# Altium schematic symbol library PMP12082.SCHLIB: 56 symbols
Pins are listed as number, name and electrical type; pins without a type are passive.

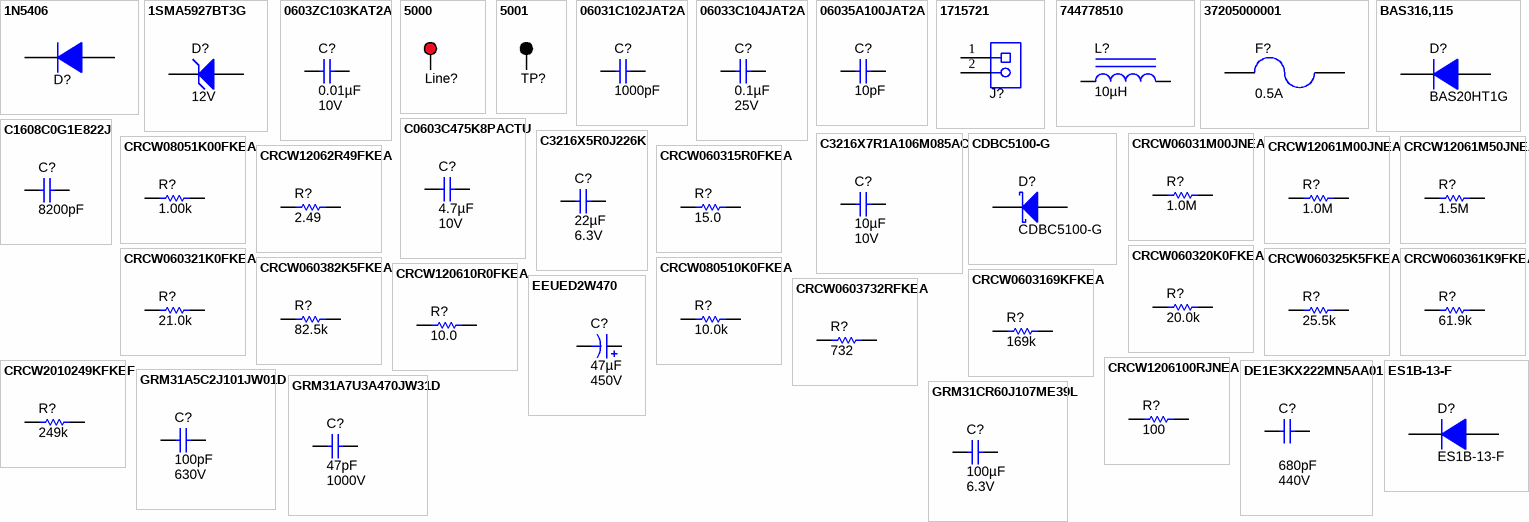
[diagram p0: symbols 1N5406 to GRM31CR60J107ME39L]

## 1N5406
designator D?, comment 1N5408  (value not drawn)
Diode, Switching-Bridge, 1000 V, 3 A, TH; Manufacturer: Vishay-Semiconductor; U/M: EA; Vf_V: 1.2; Value: 1000V; Value1: 3A; Value2: 1.2V; Io_A: 3; Vr_V: 1000; TJmax_C: 150; AEC Category: Q101; SymbolVersion: 2008-12-08; PartNumber: 1N5408; PackageReference: DO-201AD; CompType: Diode; MountType: TH; Type: Switching-Bridge; RoHS: Y; Published: 2008-06-26; Publisher: Texas Instruments; LatestRevisionDate: 2015-12-22; ComponentLink1Description: Datasheet link; ComponentLink1URL: http://www.vishay.com/docs/88516/1n5400.pdf; Supplier 1: Digi-Key; Supplier Part Number 1: 1N5408-E3/54GITR-ND; AEC Qualified: ?
signal-integrity model Diode
footprint DO-201AD
footprint DO-201AD_Vert
pins: 1 K, 2 A

## 1SMA5927BT3G
designator D?  value 12V  (hidden comment: 1SMA5927BT3G)
Diode, Zener, 12 V, 1.5 W, SMA; Manufacturer: ON Semiconductor; SymbolCreator: a0412235; U/M: EA; Power_W: 1.5; Vz_V: 12; Value1: 1.5W; RJA_CperW: 250; SymbolVersion: 2010-08-25; PartNumber: 1SMA5927BT3G; PackageReference: SMA; CompType: Zener; Vr_V: N/A; MountType: SMT; RoHS: Y; ComponentLink1Description: Datasheet link; ComponentLink1URL: http://www.onsemi.com/pub_link/Collateral/1SMA5913BT3-D.PDF; Published: 2008-10-08; Publisher: Texas Instruments; LatestRevisionDate: 2015-03-27; LatestRevisionNote: Updated Supplier Data; Supplier 1: Digi-Key; Supplier Part Number 1: 1SMA5927BT3GOSCT-ND; Supplier 2: Mouser; Supplier Part Number 2: 863-1SMA5927BT3G; Supplier 3: Farnell; Supplier Part Number 3: 1611250
signal-integrity model Diode
footprint SMA
pins: 1 K, 2 A

## 0603ZC103KAT2A
designator C?  ValueDisplayed: 0.01µF  Value2: 10V  (hidden comment: 0603ZC103KAT2A)
CAP, CERM, 0.01 µF, 10 V, +/- 10%, X7R, 0603; Manufacturer: AVX; Polarized: N; CompType: Capacitor; Value: 0.01uF; U/M: EA; Cap_F: 0.00000001; Tolerance_%: 10; Value1: Unknown; TaMin_C: -55; TaMax_C: 125; Cap_Case: 0603; AEC Category: Q200; SymbolVersion: 2008-07-09; PartNumber: 0603ZC103KAT2A; PackageReference: 0603; RoHS: Y; VDC_V: 10; MountType: SMT; Technology: Ceramic; TempCo: X7R; Published: 2008-06-19; Publisher: Texas Instruments; LatestRevisionDate: 2015-12-09; ComponentLink1Description: Datasheet link; ComponentLink1URL: http://www.avx.com/docs/Catalogs/cx7r.pdf; Supplier 1: Digi-Key; Supplier Part Number 1: 478-7938-2-ND; Supplier 2: Mouser; Supplier Part Number 2: 581-0603ZC103K; Supplier 3: Newark; Supplier Part Number 3: 33C9225; AEC Qualified: N; AEC Grade: N/A
signal-integrity model Cap
simulation model Cap
footprint 0603
footprint 0603M
footprint 0603L
footprint 0603_HV
footprint 0603S
pins: 1, 2

## 5000
designator Line?  (value not drawn)
Test Point, Miniature, Red, TH; Manufacturer: Keystone; CompType: Test Point Loop; U/M: EA; SymbolVersion: 2008-04-04; PartNumber: 5000; PackageReference: Red Miniature Testpoint; RoHS: Y; MountType: TH; ComponentLink1Description: Datasheet Link; ComponentLink1URL: http://www.keyelco.com/userAssets/file/M60-2p60.pdf; Value: Red; Publisher: Texas Instruments; LatestRevisionDate: 2015-08-25; Supplier 1: Digi-Key; Supplier Part Number 1: 36-5000-ND
footprint Keystone5000
pins: 1

## 5001
designator TP?  (value not drawn)
Test Point, Miniature, Black, TH; Manufacturer: Keystone; CompType: Test Point Loop; U/M: EA; SymbolVersion: 2008-04-04; PartNumber: 5001; PackageReference: Black Miniature Testpoint; RoHS: Y; MountType: TH; ComponentLink1Description: Datasheet Link; ComponentLink1URL: http://www.keyelco.com/userAssets/file/M60-2p60.pdf; Value: Black; Publisher: Texas Instruments; LatestRevisionDate: 2015-08-25; Supplier 1: Digi-Key; Supplier Part Number 1: 36-5001-ND
footprint Keystone5001
pins: 1

## 06031C102JAT2A
designator C?  ValueDisplayed: 1000pF  (hidden comment: 06031C102JAT2A)
CAP, CERM, 1000 pF, 100 V, +/- 5%, X7R, 0603; Manufacturer: AVX; Polarized: N; CompType: Capacitor; Value: 1000pF; U/M: EA; Cap_F: 0.000000001; Tolerance_%: 5; ESR_ohm: 0.276; Value1: 0.276 ohm; VDC_V: 100; Value2: 100V; TaMin_C: -55; TaMax_C: 125; Cap_Case: 0603; SymbolVersion: 2008-07-09; PartNumber: 06031C102JAT2A; PackageReference: 0603; RoHS: Y; MountType: SMT; Technology: Ceramic; TempCo: X7R; Published: 2008-06-19; Publisher: Texas Instruments; LatestRevisionDate: 2014-09-25; ComponentLink1Description: Datasheet link; ComponentLink1URL: http://www.avx.com/docs/masterpubs/smccp.pdf; Supplier 1: Digi-Key; Supplier Part Number 1: 478-3698-1-ND; Supplier 2: Mouser; Supplier Part Number 2: 581-06031C102J; Supplier 3: Farnell; Supplier Part Number 3: 1740627
signal-integrity model Cap
simulation model Cap
footprint 0603
footprint 0603M
footprint 0603L
footprint 0603_HV
footprint 0603S
pins: 1, 2

## 06033C104JAT2A
designator C?  ValueDisplayed: 0.1µF  Value2: 25V  (hidden comment: 06033C104JAT2A)
CAP, CERM, 0.1 µF, 25 V, +/- 5%, X7R, 0603; Manufacturer: AVX; Polarized: N; CompType: Capacitor; Value: 0.1uF; U/M: EA; Cap_F: 0.0000001; Tolerance_%: 5; ESR_ohm: 0.05; Value1: 0.05 ohm; VDC_V: 25; TaMin_C: -55; TaMax_C: 125; Cap_Case: 0603; SymbolVersion: 2008-07-09; PartNumber: 06033C104JAT2A; PackageReference: 0603; RoHS: Y; MountType: SMT; Technology: Ceramic; TempCo: X7R; Published: 2008-06-19; Publisher: Texas Instruments; LatestRevisionDate: 2014-09-25; ComponentLink1Description: Datasheet link; ComponentLink1URL: http://www.avx.com/docs/masterpubs/smccp.pdf; Supplier 1: Digi-Key; Supplier Part Number 1: 478-3713-1-ND; Supplier 2: Mouser; Supplier Part Number 2: 581-06033C104JAT2A; Supplier 3: Farnell; Supplier Part Number 3: 1740614
signal-integrity model Cap
simulation model Cap
footprint 0603
footprint 0603M
footprint 0603L
footprint 0603_HV
footprint 0603S
pins: 1, 2

## 06035A100JAT2A
designator C?  ValueDisplayed: 10pF  (hidden comment: 06035A100JAT2A)
CAP, CERM, 10 pF, 50 V, +/- 5%, C0G/NP0, 0603; Manufacturer: AVX; Polarized: N; CompType: Capacitor; Value: 10pF; U/M: EA; Cap_F: 0.00000000001; Tolerance_%: 5; ESR_ohm: 0.403; Value1: 0.403 ohm; VDC_V: 50; Value2: 50V; TaMin_C: -55; TaMax_C: 125; Cap_Case: 0603; SymbolVersion: 2008-07-09; PartNumber: 06035A100JAT2A; PackageReference: 0603; RoHS: Y; MountType: SMT; Technology: Ceramic; TempCo: C0G/NP0; Published: 2008-06-19; Publisher: Texas Instruments; LatestRevisionDate: 2014-09-04; ComponentLink1Description: Datasheet link; ComponentLink1URL: http://www.avx.com/docs/masterpubs/smccp.pdf; Supplier 1: Digi-Key; Supplier Part Number 1: 478-1163-1-ND; Supplier 2: Mouser; Supplier Part Number 2: 581-06035A100J; Supplier 3: Farnell; Supplier Part Number 3: 499110
signal-integrity model Cap
simulation model Cap
footprint 0603
footprint 0603M
footprint 0603L
footprint 0603_HV
footprint 0603S
pins: 1, 2

## 1715721
designator J?  (value not drawn)
Terminal Block, 5.08 mm, 2x1, TH; Manufacturer: Phoenix Contact; SymbolCreator: a0412235; Pitch_mm: 5.08; Gender: Female; Row_Count: 1; ContactFinish: Tin; Current_A: 17.5; Voltage_V: 400; Cert_CSA: Y; Cert_CULUS: N; SymbolVersion: 2013-09-04; PartNumber: 1715721; PackageReference: 2POS Terminal Block; CompType: Terminal Block; RoHS: Y; MountType: TH; ComponentLink1Description: Datasheet URL; ComponentLink1URL: https://www.phoenixcontact.com/us/products/1715721; Orientation: Vertical; PinCount: 2; Color: Green; Cert_UL: Y; Cert_VDE: Y; Publisher: Texas Instruments; LatestRevisionDate: 2015-12-14; Supplier 1: Digi-Key; Supplier Part Number 1: 277-1263-ND
footprint PhoenixContact_1715721
pins: 1, 2

## 744778510
designator L?  ValueDisplayed: 10µH  (hidden comment: 744778510)
Inductor, Shielded Drum Core, Metal Composite, 10 µH, 1.6 A, 0.1 ohm, SMD; Manufacturer: Wurth Elektronik; Value: 10uH; Ind_H: 10.0E-6; Imax_A: 1.6; Irms: 1.9A @ 40C rise; Isat: 1.6A @ 10% inductance drop; DCR_ohm: 0.1; Value1: 0.1 ohm; Value2: 1.6A; AEC Category: Q200; SymbolVersion: 2008-07-23; CompType: Inductor; PartNumber: 744778510; Technology: Shielded Drum Core; MountType: SMT; Material: Metal Composite; PackageReference: 6.2x3.3x5.9mm; Published: 2008-06-26; Publisher: Texas Instruments; LatestRevisionDate: 2015-12-01; ComponentLink1Description: Datasheet link; ComponentLink1URL: http://katalog.we-online.de/kataloge/eisos/media/pdf/744778510.pdf; RoHS: Y; Supplier 1: Digi-Key; Supplier Part Number 1: 732-4128-1-ND; AEC Qualified: ?
signal-integrity model Inductor
simulation model Inductor
footprint WE-PD_6033
pins: 1, 2

## 37205000001
designator F?  Irating_A: 0.5A  (hidden comment: 37205000001)
Fuse, 0.5 A, 250VAC/VDC, TH; Manufacturer: Littelfuse; VDC_V: 250; SymbolVersion: 2008-07-09; PartNumber: 37205000001; PackageReference: TR5 fuse 8.5mm DIA; MountType: TH; CompType: Fuse; RoHS: Y; VAC_V: 250; Published: 2009-03-05; Publisher: Texas Instruments; LatestRevisionDate: 2015-11-23; ComponentLink1Description: Datasheet URL; ComponentLink1URL: http://www.littelfuse.com/data/en/Data_Sheets/Littelfuse_Fuse_372.pdf; Supplier 1: Digi-Key; Supplier Part Number 1: WK4241CT-ND; Supplier 2: Mouser; Supplier Part Number 2: 576-37205000001; Supplier 3: Farnell; Supplier Part Number 3: 1716328
footprint FUSE_372
pins: 1, 2

## BAS316,115
designator D?, comment BAS20HT1G
DIODE SWITCH 200V 200MA SOD323; U/M: EA; Vf_V: 1.4; Value1: 0.25A; Vr_V: 100; Value2: 100V; TJmax_C: 150; Type: Ultrafast; PartNumber: BAS20HT1G; SymbolVersion: 2008-12-08; MountType: SMT; RoHS: Y; PackageReference: SOD-323; Published: 2008-06-26; Publisher: Texas Instruments; LatestRevisionDate: 2013-03-27; ComponentLink1Description: Datasheet link; Supplier 1: Digi-Key; Supplier Part Number 1: BAS20HT1GOSTR-ND
signal-integrity model Diode
footprint sod-323
pins: 1 K, 2 A

## C0603C475K8PACTU
designator C?  ValueDisplayed: 4.7µF  Value2: 10V  (hidden comment: C0603C475K8PACTU)
CAP, CERM, 4.7 µF, 10 V, +/- 10%, X5R, 0603; Manufacturer: Kemet; Polarized: N; CompType: Capacitor; Value: 4.7uF; U/M: EA; Cap_F: 0.0000047; Tolerance_%: 10; ESR_ohm: 0.006; Value1: 0.006 ohm; IRMS_A: 7.24; TaMin_C: -55; TaMax_C: 85; Cap_Case: 0603; AEC Category: Q200; SymbolVersion: 2008-07-09; PartNumber: C0603C475K8PACTU; PackageReference: 0603; RoHS: Y; VDC_V: 10; MountType: SMT; Technology: Ceramic; TempCo: X5R; Published: 2008-06-19; Publisher: Texas Instruments; LatestRevisionDate: 2015-12-09; ComponentLink1Description: Datasheet link; ComponentLink1URL: http://www.kemet.com/kemet/web/homepage/kechome.nsf/vapubfiles/F3102_Y5V.pdf/$file/F3102_Y5V.pdf; Supplier 1: Digi-Key; Supplier Part Number 1: 399-5503-1-ND; Supplier 2: Mouser; Supplier Part Number 2: 80-C0603C475K8P; Supplier 3: Farnell; Supplier Part Number 3: 1572625; AEC Qualified: ?
signal-integrity model Cap
simulation model Cap
footprint 0603
footprint 0603M
footprint 0603L
footprint 0603_HV
footprint 0603S
pins: 1, 2

## C1608C0G1E822J
designator C?  ValueDisplayed: 8200pF  (hidden comment: C1608C0G1E822J)
CAP, CERM, 8200 pF, 25 V, +/- 5%, C0G/NP0, 0603; Manufacturer: TDK; Polarized: N; CompType: Capacitor; Value: 8200pF; U/M: EA; Cap_F: 0.0000000082; Tolerance_%: 5; Value1: Unknown; VDC_V: 25; Value2: 25V; TaMin_C: -55; TaMax_C: 125; Cap_Case: 0603; AEC Category: Q200; SymbolVersion: 2008-07-09; PartNumber: C1608C0G1E822J; PackageReference: 0603; RoHS: Y; MountType: SMT; Technology: Ceramic; TempCo: C0G/NP0; Published: 2008-06-19; Publisher: Texas Instruments; LatestRevisionDate: 2016-01-20; ComponentLink1Description: Datasheet link; ComponentLink1URL: http://www.tdk.co.jp/tefe02/e412_c.pdf; Supplier 1: Digi-Key; Supplier Part Number 1: 445-2668-1-ND; Supplier 2: Farnell; Supplier Part Number 2: 1844151; AEC Qualified: ?
signal-integrity model Cap
simulation model Cap
footprint 0603
footprint 0603M
footprint 0603L
footprint 0603_HV
footprint 0603S
pins: 1, 2

## C3216X5R0J226K
designator C?  ValueDisplayed: 22µF  Value2: 6.3V  (hidden comment: C3216X5R0J226K)
CAP, CERM, 22 µF, 6.3 V, +/- 20%, X5R, 1206; Manufacturer: TDK; Polarized: N; CompType: Capacitor; Value: 22uF; U/M: EA; Cap_F: 0.000022; Tolerance_%: 20; ESR_ohm: 0.002; Value1: 0.002 ohm; VDC_V: 6.3; IRMS_A: 3.62; TaMin_C: -55; TaMax_C: 85; Cap_Case: 1206; AEC Category: Q200; SymbolVersion: 2008-07-09; PartNumber: C3216X5R0J226K; PackageReference: 1206; RoHS: Y; MountType: SMT; Technology: Ceramic; TempCo: X5R; Published: 2008-06-19; Publisher: Texas Instruments; LatestRevisionDate: 2015-12-09; ComponentLink1Description: Datasheet link; ComponentLink1URL: http://www.tdk.co.jp/tefe02/e412_c.pdf; Supplier 1: Digi-Key; Supplier Part Number 1: 445-4059-1-ND; Supplier 2: Farnell; Supplier Part Number 2: 1844303; AEC Qualified: ?
signal-integrity model Cap
simulation model Cap
footprint 1206
footprint 1206M
footprint 1206L
pins: 1, 2

## C3216X7R1A106M085AC
designator C?  ValueDisplayed: 10µF  Value2: 10V  (hidden comment: C3216X7R1A106M085AC)
CAP, CERM, 10 µF, 10 V, +/- 10%, X7R, 1206; Manufacturer: TDK; Polarized: N; CompType: Capacitor; Value: 10uF; U/M: EA; Cap_F: 0.00001; Tolerance_%: 10; Value1: Unknown; TaMin_C: -55; TaMax_C: 125; Cap_Case: 1206; AEC Category: Q200; SymbolVersion: 2008-07-09; PartNumber: C3216X7R1A106M085AC; PackageReference: 1206; RoHS: Y; VDC_V: 10; MountType: SMT; Technology: Ceramic; TempCo: X7R; Published: 2008-06-19; Publisher: Texas Instruments; LatestRevisionDate: 2015-12-09; ComponentLink1Description: Datasheet link; ComponentLink1URL: http://product.tdk.com/en/catalog/datasheets/mlcc_commercial_general_en.pdf; Supplier 1: Digi-Key; Supplier Part Number 1: 445-14794-1-ND; Supplier 2: Mouser; Supplier Part Number 2: 810-C3216X7R1A106M0C; AEC Qualified: N; AEC Grade: N/A
signal-integrity model Cap
simulation model Cap
footprint 1206
footprint 1206M
footprint 1206L
pins: 1, 2

## CDBC5100-G
designator D?
Diode, Schottky, 100 V, 5 A, SMC; Manufacturer: Comchip Technology; U/M: EA; Vf_V: 0.85; Value: 100V; Value1: 5A; Value2: 0.85V; Io_A: 5; Vr_V: 100; TJmax_C: 125; AEC Category: Q101; CompType: Diode; SymbolVersion: 2008-12-08; PartNumber: CDBC5100-G; PackageReference: SMC; MountType: SMT; Type: Schottky; RoHS: Y; Published: 2008-06-26; Publisher: Texas Instruments; LatestRevisionDate: 2015-12-22; ComponentLink1Description: Datasheet link; ComponentLink1URL: http://www.comchip.com.tw/cms/UserFiles/QW-BB012%20CDBC520-G%7E5100-G%20RevC809622.pdf; Supplier 1: Digi-Key; Supplier Part Number 1: 641-1124-1-ND; Supplier 2: Mouser; Supplier Part Number 2: 750-CDBC5100-G; AEC Qualified: ?
signal-integrity model Diode
footprint SMC
pins: 1 K, 2 A

## CRCW06031M00JNEA
designator R?  ValueDisplayed: 1.0M  (hidden comment: CRCW06031M00JNEA)
RES, 1.0 M, 5%, 0.1 W, 0603; Manufacturer: Vishay-Dale; CompType: Resistor; Value: 1.0Meg; Res_ohm: 1000000; Value_Code: 1M00; Tolerance_%: 5; Power_W: 0.1; Value2: 0.1W; VDC_V: 75; TempCo: 200 ppm/C; EIA_Code: E24; U/M: EA; AEC Category: Q200; SymbolVersion: 2009-05-29; PartNumber: CRCW06031M00JNEA; PackageReference: 0603; RoHS: Y; Value1: 5%; MountType: SMT; Technology: Thick Film; Published: 2008-06-26; Publisher: Texas Instruments; LatestRevisionDate: 2015-12-05; ComponentLink1Description: Datasheet link; ComponentLink1URL: http://www.vishay.com/docs/20035/dcrcwe3.pdf; Supplier 1: Digi-Key; Supplier Part Number 1: 541-1.0MGCT-ND; Supplier 2: Mouser; Supplier Part Number 2: 71-CRCW0603J-1.0M-E3; Supplier 3: Farnell; Supplier Part Number 3: 1514706; AEC Qualified: ?
signal-integrity model Resistor
simulation model Resistor
footprint 0603
footprint 0603M
footprint 0603L
footprint 0603_HV
footprint 0603S
pins: 1, 2

## CRCW08051K00FKEA
designator R?  ValueDisplayed: 1.00k  (hidden comment: CRCW08051K00FKEA)
RES, 1.00 k, 1%, 0.125 W, 0805; Manufacturer: Vishay-Dale; CompType: Resistor; Value: 1.00k; Res_ohm: 1000; Value_Code: 1k00; Tolerance_%: 1; Power_W: 0.125; Value2: 0.125W; VDC_V: 150; TempCo: 100 ppm/C; EIA_Code: E96; U/M: EA; SymbolVersion: 2009-05-29; PartNumber: CRCW08051K00FKEA; PackageReference: 0805; RoHS: Y; Value1: 1%; MountType: SMT; Technology: Thick Film; Published: 2008-06-26; Publisher: Texas Instruments; LatestRevisionDate: 2014-09-20; ComponentLink1Description: Datasheet link; ComponentLink1URL: http://www.vishay.com/docs/20035/dcrcwe3.pdf; Supplier 1: Digi-Key; Supplier Part Number 1: 541-1.00KCCT-ND; Supplier 2: Mouser; Supplier Part Number 2: 71-CRCW0805-1.0K-E3; Supplier 3: Farnell; Supplier Part Number 3: 1469847
signal-integrity model Resistor
simulation model Resistor
footprint 0805_HV
footprint 0805
footprint 0805M
footprint 0805L
pins: 1, 2

## CRCW12061M00JNEA
designator R?  ValueDisplayed: 1.0M  (hidden comment: CRCW12061M00JNEA)
RES, 1.0 M, 5%, 0.25 W, 1206; Manufacturer: Vishay-Dale; CompType: Resistor; Value: 1.0Meg; Res_ohm: 1000000; Value_Code: 1M00; Tolerance_%: 5; Power_W: 0.25; Value2: 0.25W; VDC_V: 200; TempCo: 200 ppm/C; EIA_Code: E24; U/M: EA; AEC Category: Q200; SymbolVersion: 2009-05-29; PartNumber: CRCW12061M00JNEA; PackageReference: 1206; RoHS: Y; Value1: 5%; MountType: SMT; Technology: Thick Film; Published: 2008-06-26; Publisher: Texas Instruments; LatestRevisionDate: 2015-10-21; ComponentLink1Description: Datasheet link; ComponentLink1URL: http://www.vishay.com/docs/20035/dcrcwe3.pdf; Supplier 1: Digi-Key; Supplier Part Number 1: 541-1.0MECT-ND; Supplier 2: Mouser; Supplier Part Number 2: 71-CRCW1206J-1M-E3; Supplier 3: Farnell; Supplier Part Number 3: 1531368; AEC Qualified: ?
signal-integrity model Resistor
simulation model Resistor
footprint 1206
footprint 1206M
footprint 1206L
pins: 1, 2

## CRCW12061M50JNEA
designator R?  ValueDisplayed: 1.5M  (hidden comment: CRCW12061M50JNEA)
RES, 1.5 M, 5%, 0.25 W, 1206; Manufacturer: Vishay-Dale; CompType: Resistor; Value: 1.5Meg; Res_ohm: 1500000; Value_Code: 1M50; Tolerance_%: 5; Power_W: 0.25; Value2: 0.25W; VDC_V: 200; TempCo: 200 ppm/C; EIA_Code: E24; U/M: EA; AEC Category: Q200; SymbolVersion: 2009-05-29; PartNumber: CRCW12061M50JNEA; PackageReference: 1206; RoHS: Y; Value1: 5%; MountType: SMT; Technology: Thick Film; Published: 2008-06-26; Publisher: Texas Instruments; LatestRevisionDate: 2016-02-02; ComponentLink1Description: Datasheet link; ComponentLink1URL: http://www.vishay.com/docs/20035/dcrcwe3.pdf; Supplier 1: Digi-Key; Supplier Part Number 1: 541-1.5MECT-ND; Supplier 2: Mouser; Supplier Part Number 2: 71-CRCW1206J-1.5M-E3; AEC Qualified: ?
signal-integrity model Resistor
simulation model Resistor
footprint 1206
footprint 1206M
footprint 1206L
pins: 1, 2

## CRCW12062R49FKEA
designator R?  ValueDisplayed: 2.49  (hidden comment: CRCW12062R49FKEA)
RES, 2.49, 1%, 0.25 W, 1206; Manufacturer: Vishay-Dale; CompType: Resistor; Value: 2.49; Value_Code: 2R49; Tolerance_%: 1; Power_W: 0.25; Value2: 0.25W; VDC_V: 200; TempCo: 100 ppm/C; EIA_Code: E96; U/M: EA; AEC Category: Q200; SymbolVersion: 2009-05-29; PartNumber: CRCW12062R49FKEA; PackageReference: 1206; RoHS: Y; Res_ohm: 2.49; Value1: 1%; MountType: SMT; Technology: Thick Film; Published: 2008-06-26; Publisher: Texas Instruments; LatestRevisionDate: 2016-02-02; ComponentLink1Description: Datasheet link; ComponentLink1URL: http://www.vishay.com/docs/20035/dcrcwe3.pdf; Supplier 1: Digi-Key; Supplier Part Number 1: 541-2.49FFCT-ND; Supplier 2: Mouser; Supplier Part Number 2: 71-CRCW12062R49FKEA; Supplier 3: Farnell; Supplier Part Number 3: 1152797; AEC Qualified: ?
signal-integrity model Resistor
simulation model Resistor
footprint 1206
footprint 1206M
footprint 1206L
pins: 1, 2

## CRCW060315R0FKEA
designator R?  value 15.0  (hidden comment: CRCW060315R0FKEA)
RES, 15.0 ohm, 1%, 0.1W, 0603; Manufacturer: Vishay-Dale; CompType: Resistor; Res_ohm: 15; Value_Code: 15R0; Tolerance_%: 1; Power_W: 0.1; VDC_V: 75; TempCo: 100 ppm/C; EIA_Code: E96; U/M: EA; SymbolVersion: 2009-05-29; PartNumber: CRCW060315R0FKEA; PackageReference: 0603; RoHS: Y; Value1: 1%; Value2: 0.1W; MountType: SMT; Technology: Thick Film; Published: 2008-06-26; Publisher: Texas Instruments; LatestRevisionDate: 2013-07-19; ComponentLink1Description: Datasheet link; ComponentLink1URL: http://www.vishay.com/docs/20035/dcrcwe3.pdf; Supplier 1: Digi-Key; Supplier Part Number 1: 541-15.0HCT-ND; Supplier 2: Mouser; Supplier Part Number 2: 71-CRCW0603-15-E3; Supplier 3: Farnell; Supplier Part Number 3: 1652841
signal-integrity model Resistor
simulation model Resistor
footprint 0603
footprint 0603M
footprint 0603L
footprint 0603_HV
pins: 1, 2

## CRCW060320K0FKEA
designator R?  ValueDisplayed: 20.0k  (hidden comment: CRCW060320K0FKEA)
RES, 20.0 k, 1%, 0.1 W, 0603; Manufacturer: Vishay-Dale; CompType: Resistor; Value: 20.0k; Res_ohm: 20000; Value_Code: 20k0; Tolerance_%: 1; Power_W: 0.1; Value2: 0.1W; VDC_V: 75; TempCo: 100 ppm/C; EIA_Code: E96; U/M: EA; AEC Category: Q200; SymbolVersion: 2009-05-29; PartNumber: CRCW060320K0FKEA; PackageReference: 0603; RoHS: Y; Value1: 1%; MountType: SMT; Technology: Thick Film; Published: 2008-06-26; Publisher: Texas Instruments; LatestRevisionDate: 2015-12-05; ComponentLink1Description: Datasheet link; ComponentLink1URL: http://www.vishay.com/docs/20035/dcrcwe3.pdf; Supplier 1: Digi-Key; Supplier Part Number 1: 541-20.0KHCT-ND; Supplier 2: Mouser; Supplier Part Number 2: 71-CRCW0603-20K-E3; Supplier 3: Farnell; Supplier Part Number 3: 1469774; AEC Qualified: ?
signal-integrity model Resistor
simulation model Resistor
footprint 0603
footprint 0603M
footprint 0603L
footprint 0603_HV
footprint 0603S
pins: 1, 2

## CRCW060321K0FKEA
designator R?  ValueDisplayed: 21.0k  (hidden comment: CRCW060321K0FKEA)
RES, 21.0 k, 1%, 0.1 W, 0603; Manufacturer: Vishay-Dale; CompType: Resistor; Value: 21.0k; Res_ohm: 21000; Value_Code: 21k0; Tolerance_%: 1; Power_W: 0.1; Value2: 0.1W; VDC_V: 75; TempCo: 100 ppm/C; EIA_Code: E96; U/M: EA; AEC Category: Q200; SymbolVersion: 2009-05-29; PartNumber: CRCW060321K0FKEA; PackageReference: 0603; RoHS: Y; Value1: 1%; MountType: SMT; Technology: Thick Film; Published: 2008-06-26; Publisher: Texas Instruments; LatestRevisionDate: 2015-12-05; ComponentLink1Description: Datasheet link; ComponentLink1URL: http://www.vishay.com/docs/20035/dcrcwe3.pdf; Supplier 1: Digi-Key; Supplier Part Number 1: 541-21.0KHCT-ND; Supplier 2: Mouser; Supplier Part Number 2: 71-CRCW0603-21K-E3; Supplier 3: Farnell; Supplier Part Number 3: 1151819; AEC Qualified: ?
signal-integrity model Resistor
simulation model Resistor
footprint 0603
footprint 0603M
footprint 0603L
footprint 0603_HV
footprint 0603S
pins: 1, 2

## CRCW060325K5FKEA
designator R?  ValueDisplayed: 25.5k  (hidden comment: CRCW060325K5FKEA)
RES, 25.5 k, 1%, 0.1 W, 0603; Manufacturer: Vishay-Dale; CompType: Resistor; Value: 25.5k; Res_ohm: 25500; Value_Code: 25k5; Tolerance_%: 1; Power_W: 0.1; Value2: 0.1W; VDC_V: 75; TempCo: 100 ppm/C; EIA_Code: E96; U/M: EA; AEC Category: Q200; SymbolVersion: 2009-05-29; PartNumber: CRCW060325K5FKEA; PackageReference: 0603; RoHS: Y; Value1: 1%; MountType: SMT; Technology: Thick Film; Published: 2008-06-26; Publisher: Texas Instruments; LatestRevisionDate: 2015-12-05; ComponentLink1Description: Datasheet link; ComponentLink1URL: http://www.vishay.com/docs/20035/dcrcwe3.pdf; Supplier 1: Digi-Key; Supplier Part Number 1: 541-25.5KHCT-ND; Supplier 2: Mouser; Supplier Part Number 2: 71-CRCW0603-25.5K-E3; Supplier 3: Farnell; Supplier Part Number 3: 1581395; AEC Qualified: ?
signal-integrity model Resistor
simulation model Resistor
footprint 0603
footprint 0603M
footprint 0603L
footprint 0603_HV
footprint 0603S
pins: 1, 2

## CRCW060361K9FKEA
designator R?  ValueDisplayed: 61.9k  (hidden comment: CRCW060361K9FKEA)
RES, 61.9 k, 1%, 0.1 W, 0603; Manufacturer: Vishay-Dale; CompType: Resistor; Value: 61.9k; Res_ohm: 61900; Value_Code: 61k9; Tolerance_%: 1; Power_W: 0.1; Value2: 0.1W; VDC_V: 75; TempCo: 100 ppm/C; EIA_Code: E96; U/M: EA; AEC Category: Q200; SymbolVersion: 2009-05-29; PartNumber: CRCW060361K9FKEA; PackageReference: 0603; RoHS: Y; Value1: 1%; MountType: SMT; Technology: Thick Film; Published: 2008-06-26; Publisher: Texas Instruments; LatestRevisionDate: 2015-12-05; ComponentLink1Description: Datasheet link; ComponentLink1URL: http://www.vishay.com/docs/20035/dcrcwe3.pdf; Supplier 1: Digi-Key; Supplier Part Number 1: 541-61.9KHCT-ND; Supplier 2: Mouser; Supplier Part Number 2: 71-CRCW0603-61.9K-E3; Supplier 3: Farnell; Supplier Part Number 3: 1152088; AEC Qualified: ?
signal-integrity model Resistor
simulation model Resistor
footprint 0603
footprint 0603M
footprint 0603L
footprint 0603_HV
footprint 0603S
pins: 1, 2

## CRCW060382K5FKEA
designator R?  ValueDisplayed: 82.5k  (hidden comment: CRCW060382K5FKEA)
RES, 82.5 k, 1%, 0.1 W, 0603; Manufacturer: Vishay-Dale; CompType: Resistor; Value: 82.5k; Res_ohm: 82500; Value_Code: 82k5; Tolerance_%: 1; Power_W: 0.1; Value2: 0.1W; VDC_V: 75; TempCo: 100 ppm/C; EIA_Code: E96; U/M: EA; AEC Category: Q200; SymbolVersion: 2009-05-29; PartNumber: CRCW060382K5FKEA; PackageReference: 0603; RoHS: Y; Value1: 1%; MountType: SMT; Technology: Thick Film; Published: 2008-06-26; Publisher: Texas Instruments; LatestRevisionDate: 2015-12-05; ComponentLink1Description: Datasheet link; ComponentLink1URL: http://www.vishay.com/docs/20035/dcrcwe3.pdf; Supplier 1: Digi-Key; Supplier Part Number 1: 541-82.5KHCT-ND; Supplier 2: Mouser; Supplier Part Number 2: 71-CRCW0603-82.5K-E3; Supplier 3: Farnell; Supplier Part Number 3: 1469840; AEC Qualified: ?
signal-integrity model Resistor
simulation model Resistor
footprint 0603
footprint 0603M
footprint 0603L
footprint 0603_HV
footprint 0603S
pins: 1, 2

## CRCW080510K0FKEA
designator R?  ValueDisplayed: 10.0k  (hidden comment: CRCW080510K0FKEA)
RES, 10.0 k, 1%, 0.125 W, 0805; Manufacturer: Vishay-Dale; CompType: Resistor; Value: 10.0k; Res_ohm: 10000; Value_Code: 10k0; Tolerance_%: 1; Power_W: 0.125; Value2: 0.125W; VDC_V: 150; TempCo: 100 ppm/C; EIA_Code: E96; U/M: EA; AEC Category: Q200; SymbolVersion: 2009-05-29; PartNumber: CRCW080510K0FKEA; PackageReference: 0805; RoHS: Y; Value1: 1%; MountType: SMT; Technology: Thick Film; Published: 2008-06-26; Publisher: Texas Instruments; LatestRevisionDate: 2015-12-10; ComponentLink1Description: Datasheet link; ComponentLink1URL: http://www.vishay.com/docs/20035/dcrcwe3.pdf; Supplier 1: Digi-Key; Supplier Part Number 1: 541-10.0KCCT-ND; Supplier 2: Mouser; Supplier Part Number 2: 71-CRCW0805-10K-E3; Supplier 3: Farnell; Supplier Part Number 3: 1469856; AEC Qualified: ?
signal-integrity model Resistor
simulation model Resistor
footprint 0805_HV
footprint 0805_HV1
footprint 0805
footprint 0805M
pins: 1, 2

## CRCW120610R0FKEA
designator R?  ValueDisplayed: 10.0  (hidden comment: CRCW120610R0FKEA)
RES, 10.0, 1%, 0.25 W, 1206; Manufacturer: Vishay-Dale; CompType: Resistor; Value: 10.0; Res_ohm: 10; Value_Code: 10R0; Tolerance_%: 1; Power_W: 0.25; Value2: 0.25W; VDC_V: 200; TempCo: 100 ppm/C; EIA_Code: E96; U/M: EA; SymbolVersion: 2009-05-29; PartNumber: CRCW120610R0FKEA; PackageReference: 1206; RoHS: Y; Value1: 1%; MountType: SMT; Technology: Thick Film; Published: 2008-06-26; Publisher: Texas Instruments; LatestRevisionDate: 2015-04-14; ComponentLink1Description: Datasheet link; ComponentLink1URL: http://www.vishay.com/docs/20035/dcrcwe3.pdf; Supplier 1: Digi-Key; Supplier Part Number 1: 541-10.0FCT-ND; Supplier 2: Mouser; Supplier Part Number 2: 71-CRCW1206-10-E3; Supplier 3: Farnell; Supplier Part Number 3: 1469974
signal-integrity model Resistor
simulation model Resistor
footprint 1206
footprint 1206M
footprint 1206L
pins: 1, 2

## CRCW0603169KFKEA
designator R?  ValueDisplayed: 169k  (hidden comment: CRCW0603169KFKEA)
RES, 169 k, 1%, 0.1 W, 0603; Manufacturer: Vishay-Dale; CompType: Resistor; Value: 169k; Res_ohm: 169000; Tolerance_%: 1; Power_W: 0.1; Value2: 0.1W; VDC_V: 75; TempCo: 100 ppm/C; EIA_Code: E96; U/M: EA; AEC Category: Q200; SymbolVersion: 2009-05-29; PartNumber: CRCW0603169KFKEA; PackageReference: 0603; RoHS: Y; Value_Code: 169k; Value1: 1%; MountType: SMT; Technology: Thick Film; Published: 2008-06-26; Publisher: Texas Instruments; LatestRevisionDate: 2015-12-05; ComponentLink1Description: Datasheet link; ComponentLink1URL: http://www.vishay.com/docs/20035/dcrcwe3.pdf; Supplier 1: Digi-Key; Supplier Part Number 1: 541-169KHCT-ND; Supplier 2: Mouser; Supplier Part Number 2: 71-CRCW0603-169K-E3; Supplier 3: Farnell; Supplier Part Number 3: 1203008; AEC Qualified: ?
signal-integrity model Resistor
simulation model Resistor
footprint 0603
footprint 0603M
footprint 0603L
footprint 0603_HV
footprint 0603S
pins: 1, 2

## CRCW0603732RFKEA
designator R?  ValueDisplayed: 732  (hidden comment: CRCW0603732RFKEA)
RES, 732, 1%, 0.1 W, 0603; Manufacturer: Vishay-Dale; CompType: Resistor; Value: 732; Value_Code: 732R; Tolerance_%: 1; Power_W: 0.1; Value2: 0.1W; VDC_V: 75; TempCo: 100 ppm/C; EIA_Code: E96; U/M: EA; AEC Category: Q200; SymbolVersion: 2009-05-29; PartNumber: CRCW0603732RFKEA; PackageReference: 0603; RoHS: Y; Res_ohm: 732; Value1: 1%; MountType: SMT; Technology: Thick Film; Published: 2008-06-26; Publisher: Texas Instruments; LatestRevisionDate: 2016-02-03; ComponentLink1Description: Datasheet link; ComponentLink1URL: http://www.vishay.com/docs/20035/dcrcwe3.pdf; Supplier 1: Digi-Key; Supplier Part Number 1: 541-732HCT-ND; Supplier 2: Mouser; Supplier Part Number 2: 71-CRCW0603-732-E3; Supplier 3: Farnell; Supplier Part Number 3: 1185051; AEC Qualified: ?
signal-integrity model Resistor
simulation model Resistor
footprint 0603
footprint 0603M
footprint 0603L
footprint 0603_HV
footprint 0603S
pins: 1, 2

## CRCW1206100RJNEA
designator R?  ValueDisplayed: 100  (hidden comment: CRCW1206100RJNEA)
RES, 100, 5%, 0.25 W, 1206; Manufacturer: Vishay-Dale; CompType: Resistor; Value: 100; Value_Code: 100R; Tolerance_%: 5; Power_W: 0.25; Value2: 0.25W; VDC_V: 200; TempCo: 200 ppm/C; EIA_Code: E24; U/M: EA; AEC Category: Q200; SymbolVersion: 2009-05-29; PartNumber: CRCW1206100RJNEA; PackageReference: 1206; RoHS: Y; Res_ohm: 100; Value1: 5%; MountType: SMT; Technology: Thick Film; Published: 2008-06-26; Publisher: Texas Instruments; LatestRevisionDate: 2016-02-02; ComponentLink1Description: Datasheet link; ComponentLink1URL: http://www.vishay.com/docs/20035/dcrcwe3.pdf; Supplier 1: Digi-Key; Supplier Part Number 1: 541-100ECT-ND; Supplier 2: Mouser; Supplier Part Number 2: 71-CRCW1206J-100-E3; Supplier 3: Farnell; Supplier Part Number 3: 1516827; AEC Qualified: ?
signal-integrity model Resistor
simulation model Resistor
footprint 1206
footprint 1206M
footprint 1206L
pins: 1, 2

## CRCW2010249KFKEF
designator R?  ValueDisplayed: 249k  (hidden comment: CRCW2010249KFKEF)
RES, 249 k, 1%, 0.75 W, 2010; Manufacturer: Vishay-Dale; CompType: Resistor; Value: 249k; Res_ohm: 249000; Tolerance_%: 1; Power_W: 0.75; Value2: 0.75W; VDC_V: 400; TempCo: 100 ppm/C; EIA_Code: E96; U/M: EA; AEC Category: Q200; SymbolVersion: 2009-05-29; PartNumber: CRCW2010249KFKEF; PackageReference: 2010; RoHS: Y; Value_Code: 249k; Value1: 1%; MountType: SMT; Technology: Thick Film; Published: 2008-06-26; Publisher: Texas Instruments; LatestRevisionDate: 2015-08-18; ComponentLink1Description: Datasheet link; ComponentLink1URL: http://www.vishay.com/doc?20035; Supplier 1: Digi-Key; Supplier Part Number 1: 541-249KACCT-ND; AEC Qualified: ?
signal-integrity model Resistor
simulation model Resistor
footprint 2010
footprint 2010M
footprint 2010L
pins: 1, 2

## DE1E3KX222MN5AA01
designator C?, comment ValueDisplayed: 680pF  Value2: 440V  (hidden comment: VY2681M29Y5US63V7)
CAP CER 680PF 440VAC 20% RADIAL; Manufacturer: Vishay; Polarized: N; CompType: Capacitor; U/M: EA; Cap_F: 0.0000000022; Tolerance_%: 20; Value1: Unknown; VDC_V: 250; TempCo: E; TaMin_C: -25; TaMax_C: 85; Cap_Case: 10x8x14mm; SymbolVersion: 2008-07-09; Value: 680pF; PartNumber: VY2681M29Y5US63V7; PackageReference: 10.0x8.0x14.0mm; RoHS: Y; MountType: TH; Technology: Ceramic; Published: 2008-06-19; Publisher: Texas Instruments; LatestRevisionDate: 2014-09-25; ComponentLink1Description: Datasheet link; Supplier 1: Digi-Key; Supplier Part Number 1: BC2353-ND
signal-integrity model Cap
simulation model Cap
footprint KX_1000x800x1400
pins: 1, 2

## EEUED2W470
designator C?  ValueDisplayed: 47µF  Value2: 450V  (hidden comment: EEUED2W470)
CAP, AL, 47 µF, 450 V, +/- 20%, 0.609529 ohm, TH; Manufacturer: Panasonic; Polarized: Y; CompType: Capacitor; Value: 47uF; U/M: EA; Cap_F: 0.000047; Tolerance_%: 20; VDC_V: 450; IRMS_A: 1; TaMin_C: -25; TaMax_C: 105; AC_Derating: 0.3; AEC Category: Q200; SymbolVersion: 2008-07-09; PartNumber: EEUED2W470; PackageReference: 18x31.5; RoHS: Y; Value1: 0.609529 ohm; ESR_ohm: 0.609529; MountType: TH; Technology: AL; Series: ED; Publisher: Texas Instruments; LatestRevisionDate: 2015-12-17; ComponentLink1Description: Datasheet link; ComponentLink1URL: http://industrial.panasonic.com/www-data/pdf/ABA0000/ABA0000CE123.pdf; Supplier 1: Digi-Key; Supplier Part Number 1: P13563-ND; Supplier 2: Farnell; Supplier Part Number 2: 9696571; AEC Qualified: ?
signal-integrity model Cap
simulation model Cap
footprint CAPPR7.5-18X31.5
pins: 1 +, 2 -

## ES1B-13-F
designator D?
Diode, Superfast Rectifier, 100 V, 1 A, SMA; Manufacturer: Diodes Inc.; U/M: EA; Vf_V: 0.92; Value: 100V; Value1: 1A; Value2: 0.92V; Io_A: 1; Vr_V: 100; TJmax_C: 150; RJC_CperW: 25; AEC Category: Q101; SymbolVersion: 2008-12-08; PartNumber: ES1B-13-F; PackageReference: SMA; CompType: Diode; MountType: SMT; Type: Superfast Rectifier; RoHS: Y; Published: 2008-06-26; Publisher: Texas Instruments; LatestRevisionDate: 2016-01-22; ComponentLink1Description: Datasheet link; ComponentLink1URL: http://www.diodes.com/datasheets/ds14001.pdf; Supplier 1: Digi-Key; Supplier Part Number 1: ES1B-FDICT-ND; Supplier 2: Mouser; Supplier Part Number 2: 621-ES1B-F; Supplier 3: Farnell; Supplier Part Number 3: 1858637; AEC Qualified: ?
signal-integrity model Diode
footprint SMA
pins: 1 K, 2 A

## GRM31A5C2J101JW01D
designator C?  ValueDisplayed: 100pF  Value2: 630V  (hidden comment: GRM31A5C2J101JW01D)
CAP, CERM, 100 pF, 630 V, +/- 5%, C0G/NP0, 1206; Manufacturer: MuRata; Polarized: N; CompType: Capacitor; Value: 100pF; U/M: EA; Cap_F: 0.0000000001; Tolerance_%: 5; Value1: Unknown; VDC_V: 630; TaMin_C: -55; TaMax_C: 125; Cap_Case: 1206; AEC Category: Q200; SymbolVersion: 2008-07-09; PartNumber: GRM31A5C2J101JW01D; PackageReference: 1206; RoHS: Y; MountType: SMT; Technology: Ceramic; TempCo: C0G/NP0; Published: 2008-06-19; Publisher: Texas Instruments; LatestRevisionDate: 2015-09-11; ComponentLink1Description: Datasheet link; ComponentLink1URL: http://search.murata.co.jp/Ceramy/PnsearchViewAction.do?HnOFG=ON&HnNFG=ON&SEL_CNT=50&sLang=en&sKey=GRM31A5C2J101JW01D&x=9&y=9&search=startwith; Supplier 1: Digi-Key; Supplier Part Number 1: 490-5273-1-ND; Supplier 2: Mouser; Supplier Part Number 2: 81-GRM31A5C2J101JW01; Supplier 3: Farnell; Supplier Part Number 3: 2057292; AEC Qualified: ?
signal-integrity model Cap
simulation model Cap
footprint 1206
footprint 1206M
footprint 1206L
pins: 1, 2

## GRM31A7U3A470JW31D
designator C?  ValueDisplayed: 47pF  Value2: 1000V  (hidden comment: GRM31A7U3A470JW31D)
CAP, CERM, 47 pF, 1000 V, +/- 5%, U2J, 1206; Manufacturer: MuRata; Polarized: N; CompType: Capacitor; Value: 47pF; U/M: EA; Cap_F: 0.000000000047; Tolerance_%: 5; Value1: Unknown; VDC_V: 1000; TaMin_C: -55; TaMax_C: 125; Cap_Case: 1206; AEC Category: Q200; SymbolVersion: 2008-07-09; PartNumber: GRM31A7U3A470JW31D; PackageReference: 1206; RoHS: Y; MountType: SMT; Technology: Ceramic; TempCo: U2J; Published: 2008-06-19; Publisher: Texas Instruments; LatestRevisionDate: 2016-02-04; ComponentLink1Description: Datasheet link; ComponentLink1URL: http://search.murata.co.jp/Ceramy/PnsearchViewAction.do?HnOFG=ON&HnNFG=ON&SEL_CNT=50&sLang=en&sKey=GRM31A7U3A470JW31D&x=9&y=9&search=startwith; Supplier 1: Digi-Key; Supplier Part Number 1: 490-4299-1-ND; Supplier 2: Mouser; Supplier Part Number 2: 81-GRM31A7U3A470JD; AEC Qualified: ?
signal-integrity model Cap
simulation model Cap
footprint 1206
footprint 1206M
footprint 1206L
pins: 1, 2

## GRM31CR60J107ME39L
designator C?  ValueDisplayed: 100µF  Value2: 6.3V  (hidden comment: GRM31CR60J107ME39L)
CAP, CERM, 100 µF, 6.3 V, +/- 20%, X5R, 1206; Manufacturer: MuRata; Polarized: N; CompType: Capacitor; Value: 100uF; U/M: EA; Cap_F: 0.0001; Tolerance_%: 20; ESR_ohm: 0.003; Value1: 0.003 ohm; VDC_V: 6.3; TaMin_C: -55; TaMax_C: 85; Cap_Case: 1206; AEC Category: Q200; SymbolVersion: 2008-07-09; PartNumber: GRM31CR60J107ME39L; PackageReference: 1206; RoHS: Y; MountType: SMT; Technology: Ceramic; TempCo: X5R; Published: 2008-06-19; Publisher: Texas Instruments; LatestRevisionDate: 2016-01-20; ComponentLink1Description: Datasheet link; ComponentLink1URL: http://search.murata.co.jp/Ceramy/PnsearchViewAction.do?HnOFG=ON&HnNFG=ON&SEL_CNT=50&sLang=en&sKey=GRM31CR60J107ME39L&x=9&y=9&search=startwith; Supplier 1: Digi-Key; Supplier Part Number 1: 490-4539-1-ND; Supplier 2: Mouser; Supplier Part Number 2: 81-GRM31CR60J107ME9L; Supplier 3: Farnell; Supplier Part Number 3: 1735535; AEC Qualified: ?
signal-integrity model Cap
simulation model Cap
footprint 1206
footprint 1206M
footprint 1206L
pins: 1, 2

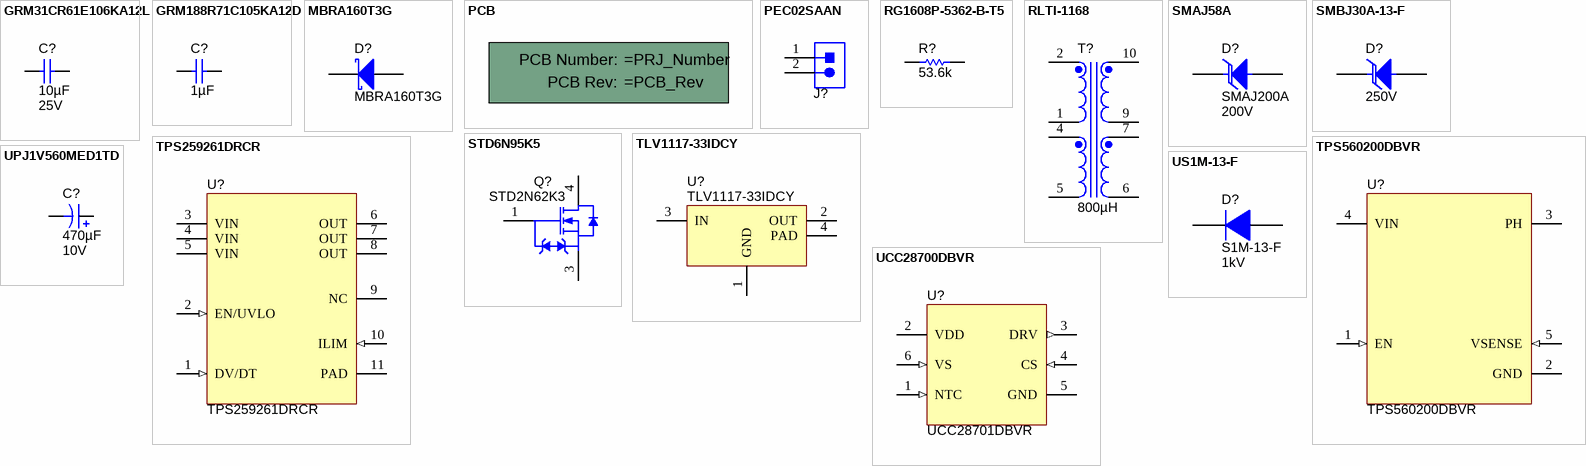
[diagram p1: symbols GRM31CR61E106KA12L to US1M-13-F]

## GRM31CR61E106KA12L
designator C?  ValueDisplayed: 10µF  Value2: 25V  (hidden comment: GRM31CR61E106KA12L)
CAP, CERM, 10uF, 25V, +/-10%, X5R, 1206; Manufacturer: MuRata; Polarized: N; CompType: Capacitor; U/M: EA; Cap_F: 0.00001; Tolerance_%: 10; ESR_Ohm: 0.004; Value1: 0.004 ohm; VDC_V: 25; TaMin_C: -55; TaMax_C: 85; Cap_Case: 1206; SymbolVersion: 2008-07-09; Value: 10uF; PartNumber: GRM31CR61E106KA12L; PackageReference: 1206; RoHS: Y; MountType: SMT; Technology: Ceramic; TempCo: X5R; Published: 2008-06-19; Publisher: Texas Instruments; LatestRevisionDate: 2013-09-06; ComponentLink1Description: Datasheet link; ComponentLink1URL: http://search.murata.co.jp/Ceramy/PnsearchViewAction.do?HnOFG=ON&HnNFG=ON&SEL_CNT=50&sLang=en&sKey=GRM31CR61E106KA12L&x=9&y=9&search=startwith; Supplier 1: Digi-Key; Supplier Part Number 1: 490-3373-1-ND; Supplier 2: Mouser; Supplier Part Number 2: 81-GRM31R61E106KA12L; Supplier 3: Farnell; Supplier Part Number 3: 1828816
signal-integrity model Cap
simulation model Cap
footprint 1206
footprint 1206M
footprint 1206L
pins: 1, 2

## GRM188R71C105KA12D
designator C?  ValueDisplayed: 1µF  (hidden comment: GRM188R71C105KA12D)
CAP, CERM, 1 µF, 16 V, +/- 10%, X7R, 0603; Manufacturer: MuRata; Polarized: N; CompType: Capacitor; Value: 1uF; U/M: EA; Cap_F: 0.000001; Tolerance_%: 10; ESR_ohm: 0.011; Value1: 0.011 ohm; VDC_V: 16; Value2: 16V; TaMin_C: -55; TaMax_C: 125; Cap_Case: 0603; AEC Category: Q200; SymbolVersion: 2008-07-09; PartNumber: GRM188R71C105KA12D; PackageReference: 0603; RoHS: Y; MountType: SMT; Technology: Ceramic; TempCo: X7R; Published: 2008-06-19; Publisher: Texas Instruments; LatestRevisionDate: 2016-01-20; ComponentLink1Description: Datasheet link; ComponentLink1URL: http://search.murata.co.jp/Ceramy/PnsearchViewAction.do?HnOFG=ON&HnNFG=ON&SEL_CNT=50&sLang=en&sKey=GRM188R71C105KA12D&x=9&y=9&search=startwith; Supplier 1: Digi-Key; Supplier Part Number 1: 490-3900-1-ND; Supplier 2: Mouser; Supplier Part Number 2: 81-GRM188R71C105KA12; Supplier 3: Farnell; Supplier Part Number 3: 1828826; AEC Qualified: ?
signal-integrity model Cap
simulation model Cap
footprint 0603
footprint 0603M
footprint 0603L
footprint 0603_HV
footprint 0603S
pins: 1, 2

## MBRA160T3G
designator D?
Diode, Schottky, 60 V, 1 A, SMA; Manufacturer: ON Semiconductor; U/M: EA; Vf_V: 0.51; Value: 60V; Value1: 1A; Value2: 0.51V; Io_A: 1; Vr_V: 60; TJmax_C: 150; RJC_CperW: 35; AEC Category: Q101; CompType: Diode; SymbolVersion: 2008-12-08; PartNumber: MBRA160T3G; PackageReference: SMA; MountType: SMT; Type: Schottky; RoHS: Y; Published: 2008-06-26; Publisher: Texas Instruments; LatestRevisionDate: 2016-01-22; ComponentLink1Description: Datasheet link; ComponentLink1URL: http://www.onsemi.com/pub_link/Collateral/MBRA160T3-D.PDF; Supplier 1: Digi-Key; Supplier Part Number 1: MBRA160T3GOSCT-ND; Supplier 2: Mouser; Supplier Part Number 2: 863-MBRA160T3G; Supplier 3: Farnell; Supplier Part Number 3: 1431076; AEC Qualified: ?
signal-integrity model Diode
simulation model mbra160t3
footprint SMA
pins: 1 K, 2 A

## PCB
designator !PCB?, comment Printed Circuit Board  (value not drawn)  (mechanical)
Manufacturer: Any; SymbolCreator: a0412235; CompType: PCB; SymbolVersion: 2012-05-30; PartNumber: =PRJ_Number; RoHS: O; MountType: N/A; Publisher: Texas Instruments; LatestRevisionDate: 2012-06-27; LatestRevisionNote: Initial Version; Alternate Manufacturer: -; Alternate PartNumber: -
1 alternate drawing of the same symbol
text: PCB Number:; PCB Rev:

## PEC02SAAN
designator J?  (value not drawn)
Header, 100mil, 2x1, Tin, TH; Manufacturer: Sullins Connector Solutions; SymbolCreator: a0412235; Pitch_mm: 2.54; Gender: Male; Shrouded: N; Row_Count: 1; Current_A: 3; Voltage_V: 1800; Cert_UL: Y; SymbolVersion: 2013-10-31; PartNumber: PEC02SAAN; PackageReference: Header, 2 PIN, 100mil, Tin; ClassName: Header; CompType: Header; RoHS: Y; MountType: TH; ComponentLink1Description: Datasheet URL; ComponentLink1URL: http://www.sullinscorp.com/catalogs/77_PAGE108-109_.100_MALE_HDR.pdf; Orientation: Vertical; PinCount: 2; ContactFinish: Tin; Color: Black; Publisher: Texas Instruments; LatestRevisionDate: 2016-02-23; Supplier 1: Digi-Key; Supplier Part Number 1: S1012E-02-ND
footprint CONN_PEC02SAAN
pins: 1, 2
1 alternate drawing of the same symbol

## RG1608P-5362-B-T5
designator R?  ValueDisplayed: 53.6k  (hidden comment: RG1608P-5362-B-T5)
RES, 53.6 k, 0.1%, 0.1 W, 0603; Manufacturer: Susumu Co Ltd; CompType: Resistor; Value: 53.6k; Res_ohm: 53600; Value_Code: 53k6; Tolerance_%: 0.1; Value2: 0.1W; VDC_V: 75; TempCo: 25 ppm/C; EIA_Code: E192; U/M: EA; AEC Category: Q200; SymbolVersion: 2009-05-29; PartNumber: RG1608P-5362-B-T5; PackageReference: 0603; RoHS: Y; Value1: 0.1%; Power_W: 0.1; MountType: SMT; Technology: Metal Film; Published: 2008-06-26; Publisher: Texas Instruments; LatestRevisionDate: 2015-12-05; ComponentLink1Description: Datasheet link; ComponentLink1URL: http://www.susumu.co.jp/english/pdf/products-j01-01.pdf; Supplier 1: Digi-Key; Supplier Part Number 1: RG16P53.6KBCT-ND; Supplier 2: Mouser; Supplier Part Number 2: 754-RG1608P-5362-BT5; AEC Qualified: ?
signal-integrity model Resistor
simulation model Resistor
footprint 0603
footprint 0603M
footprint 0603L
footprint 0603_HV
footprint 0603S
pins: 1, 2

## RLTI-1168
designator T?  ValueDisplayed: 800µH  (hidden comment: RLTI-1168)
Transformer, 800 uH, TH; Manufacturer: TE Connectivity; SymbolCreator: Altium; Value: 800uH; Lp: 800; DCR_ohm: 2.5; Rs1: 0.4; Rs2: 0.05; Rs3: 0.01; SymbolVersion: 2016-01-14; PartNumber: RLTI-1168; MountType: TH; PackageReference: 805x670mil; ComponentLink1URL: https://sps06.itg.ti.com/sites/KMS/crossdivteams/altium/docs/ComponentDatasheets/RLTI-1168 prelim.pdf; ComponentLink1Description: Datasheet URL; CompType: Transformer; Publisher: Texas Instruments; LatestRevisionDate: 2016-01-14
footprint Renco_RLTI-1168
pins: 1, 2, 4, 5, 6, 7, 9, 10

## SMAJ58A
designator D?, comment SMAJ200A  value 200V
TVS DIODE 200VWM 324VC SMA; Manufacturer: Diodes Inc.; U/M: EA; Power_W: 400; Vr_V: 200; Value1: 400W; AEC Category: Q101; CompType: TVS; SymbolVersion: 2012-01-13; PartNumber: SMAJ200A; PackageReference: SMA; Vz_V: N/A; MountType: SMT; RoHS: Y; ComponentLink1Description: Datasheet link; Published: 2008-10-08; Publisher: Texas Instruments; LatestRevisionDate: 2015-12-07; LatestRevisionNote: Updated Supplier Data; Supplier 1: Digi-Key; Supplier Part Number 1: SMAJ200ALFCT-ND; AEC Qualified: ?
footprint SMA
pins: 1 K, 2 A

## SMBJ30A-13-F
designator D?, comment value 250V  (hidden comment: SMBJ250A)
TVS DIODE 250VWM 405VC DO214AA; Manufacturer: Littelfuse Inc.; U/M: EA; Power_W: 5; Vr_V: 250; Value1: 5W; AEC Category: Q101; CompType: TVS; SymbolVersion: 2012-01-13; PartNumber: SMBJ250A; PackageReference: SMB; Vz_V: N/A; MountType: SMT; RoHS: Y; ComponentLink1Description: Datasheet link; Published: 2008-10-08; Publisher: Texas Instruments; LatestRevisionDate: 2015-08-17; LatestRevisionNote: Updated Supplier Data; Supplier 1: Digi-Key; Supplier Part Number 1: SMBJ250ATR-ND; AEC Qualified: ?
footprint SMB
pins: 1 K, 2 A

## STD6N95K5
designator Q?, comment STD2N62K3
MOSFET N-CH 620V 2.2A DPAK; Manufacturer: STMicroelectronics; Alternate Manufacturer: None; SymbolCreator: Altium; U/M: EA; ChType: N; VdsMax_V: 620; Value1: ? ohm; Value2: 13 nC; QgTyp_nC: 13; Vgs_V: 30; IdsMax_A: 9; AEC Category: Q101; SymbolVersion: 2014-07-10; PartNumber: STD2N62K3; PackageReference: DPAK; CompType: MOSFET; Value: 620V; RoHS: Y; MountType: SMT; Published: 2008-06-19; Publisher: Texas Instruments; LatestRevisionDate: 2015-12-29; LatestRevisionNote: Added parts.; ComponentLink1Description: Datasheet link; Supplier 1: Digi-Key; Supplier Part Number 1: 497-12553-2-ND; AEC Qualified: ?
footprint DPAK
pins: 1 G, 3 S, 4 D

## TLV1117-33IDCY
designator U?
FIXED LOW-DROPOUT VOLTAGE REGULATOR, DCY0003A; Manufacturer: Texas Instruments; SymbolCreator: a0411947; CompType: IC; U/M: EA; SymbolVersion: 2013-08-06; PartNumber: TLV1117-33IDCY; PackageReference: DCY0003A; MountType: SMT; ComponentLink1Description: Datasheet Link; ComponentLink1URL: http://www.ti.com/lit/ds/symlink/tlv1117.pdf; RoHS: Y; Publisher: Texas Instruments; LatestRevisionDate: 2016-01-21; Alternate Manufacturer: Texas Instruments
footprint DCY0003A_N
footprint DCY0003A_M
footprint DCY0003A_L
pins: 1 GND (power), 2 OUT (power), 3 IN (power), 4 PAD (power)

## TPS259261DRCR
designator U?
Simple 5V eFuse Protection Switches, DRC0010J; Alternate PartNumber: TPS259261DRCT; Manufacturer: Texas Instruments; SymbolCreator: Altium; CompType: IC; U/M: EA; SymbolVersion: 2014-08-14; PartNumber: TPS259261DRCR; PackageReference: DRC0010J; MountType: SMT; ComponentLink1Description: Datasheet Link; ComponentLink1URL: https://sps06.itg.ti.com/sites/KMS/crossdivteams/altium/docs/ComponentDatasheets/SLVSCQ3_9_30.pdf; Publisher: Texas Instruments; LatestRevisionDate: 2016-01-22; Alternate Manufacturer: Texas Instruments
footprint DRC0010J
pins: 1 DV/DT (in) "dV/dT", 2 EN/UVLO (in), 3 VIN (power), 4 VIN (power), 5 VIN (power), 6 OUT (power), 7 OUT (power), 8 OUT (power), 9 NC "BFET", 10 ILIM (in), 11 PAD (power)

## TPS560200DBVR
designator U?
4.5V to 18V Input, 500mA Synchronous Step Down SWIFT Converter with Advanced Eco-mode, DBV0005A; Alternate PartNumber: TPS560200DBVT; Manufacturer: Texas Instruments; SymbolCreator: a0411947; CompType: IC; U/M: EA; SymbolVersion: 2014-10-15; PartNumber: TPS560200DBVR; PackageReference: DBV0005A; MountType: SMT; ComponentLink1Description: Datasheet Link; ComponentLink1URL: http://www.ti.com/lit/ds/symlink/tps560200.pdf; RoHS: Y; Publisher: Texas Instruments; LatestRevisionDate: 2016-01-21; Alternate Manufacturer: Texas Instruments
footprint DBV0005A_N
footprint DBV0005A_M
footprint DBV0005A_L
pins: 1 EN (in), 2 GND (power), 3 PH (power), 4 VIN (power), 5 VSENSE (in)
2 alternate drawings of the same symbol

## UCC28700DBVR
designator U?, comment UCC28701DBVR
Constant-Voltage, Constant-Current Controller With Primary-Side Regulation, DBV0006A; Alternate PartNumber: UCC28701DBVT; Manufacturer: Texas Instruments; SymbolCreator: a0799628; CompType: IC; U/M: EA; SymbolVersion: 2012-11-13; PartNumber: UCC28701DBVR; PackageReference: DBV0006A; MountType: SMT; ComponentLink1Description: Datasheet Link; ComponentLink1URL: http://www.ti.com/lit/gpn/ucc28700; RoHS: Y; Publisher: Texas Instruments; LatestRevisionDate: 2016-02-05; Alternate Manufacturer: Texas Instruments
footprint DBV0006A_N
footprint DBV0006A_M
footprint DBV0006A_L
pins: 1 NTC (in), 2 VDD (power), 3 DRV (out), 4 CS (in), 5 GND (power), 6 VS (in)

## UPJ1V560MED1TD
designator C?, comment ValueDisplayed: 470µF  Value2: 10V  (hidden comment: UVY1A471MED1TD)
CAP ALUM 470UF 20% 10V RADIAL; Manufacturer: Nichicon; Polarized: Y; CompType: Capacitor; U/M: EA; Cap_F: 0.000056; Tolerance_%: 20; Value1: 0.45 ohm; VDC_V: 10; ESR_ohm: 0.45; IRMS_A: 0.18; TaMin_C: -55; TaMax_C: 105; Cap_Case: 6.3x11mm; AEC Category: Q200; SymbolVersion: 2008-07-09; Value: 470uF; PartNumber: UVY1A471MED1TD; PackageReference: TH, 2-Leads, Dia 6.3mm, PinSpacing 2.5mm; RoHS: Y; MountType: TH; Technology: AL; Series: VY; Publisher: Texas Instruments; LatestRevisionDate: 2015-12-17; ComponentLink1Description: Datasheet link; Supplier 1: Digi-Key; Supplier Part Number 1: 493-12892-3-ND; AEC Qualified: ?
signal-integrity model Cap
simulation model Cap
footprint PJ_630x1100
pins: 1 +, 2 -

## US1M-13-F
designator D?, comment S1M-13-F  Value2: 1kV
DIODE GEN PURP 1KV 1A SMA; Manufacturer: Diodes Inc.; Value: 1.7V; U/M: EA; Vf_V: 1.7; Io_A: 1; Vr_V: 1000; TJmax_C: 150; RJC_CperW: 30; Type: Standard; CompType: Diode; PartNumber: S1M-13-F; SymbolVersion: 2008-12-08; MountType: SMT; RoHS: Y; PackageReference: SMA; Value1: 1A; Published: 2008-06-26; Publisher: Texas Instruments; LatestRevisionDate: 2013-03-27; ComponentLink1Description: Datasheet link; Supplier 1: Digi-Key; Supplier Part Number 1: S1M-FDICT-ND
signal-integrity model Diode
footprint SMA
pins: 1 K, 2 A